# Altium footprint library FRONT-UNIT.PcbLib: 20 footprints (part 2 of 2)
Each footprint in its own frame and in the unit in brackets; x right, y up, seen from the top. Pads: shape width x height; smd on the part's side, far side on the other; paste and mask are expansions set on the pad; w line width, h text height; cw(c..) or ccw(c..) is an arc to the next point about the centre after c.
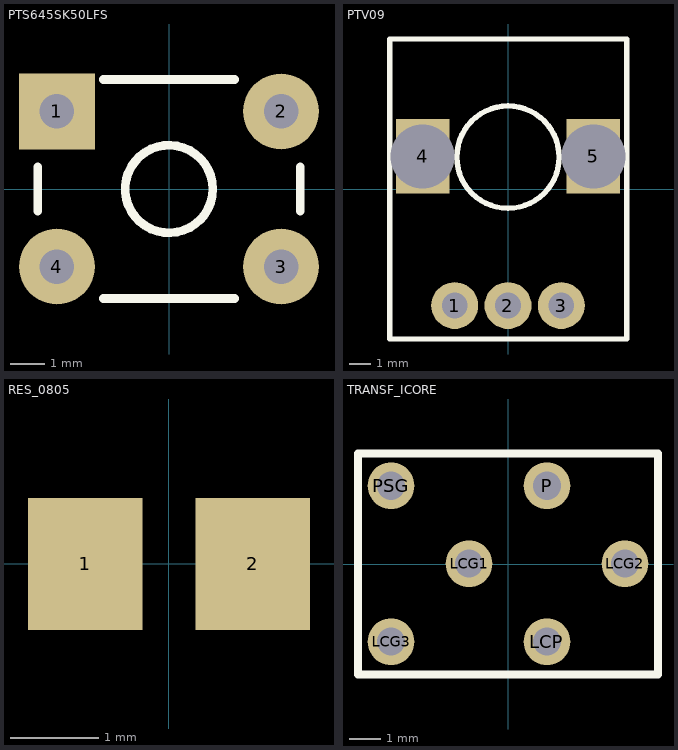
[diagram p1: the footprints below, top view; thin cyan lines are the x and y axes]

## PTS645SK50LFS [mm]
pads (4):
  rect 2.2x2.2 hole 1: 1(-3.25,2.25)
  round 2.2 hole 1: 2(3.25,2.25) 3(3.25,-2.25) 4(-3.25,-2.25)
Top Overlay:
  circle w0.254: c0,0 r1.27
  lines w0.254: -3.81,-0.635 -3.81,0.635 ; -1.904,-3.174 1.904,-3.174 ; -1.904,3.175 1.904,3.175 ; 3.81,-0.635 3.81,0.635

## PTV09 [mm]
pads (5):
  round 2.2 hole 1.2: 1(-2.515,-5.465) 2(-0.015,-5.465) 3(2.485,-5.465)
  rect 2.5x3.5 hole 3 square: 4(-4.015,1.535) 5(3.985,1.535)
Top Overlay:
  circle w0.254: c-0.016,1.496 r2.4
  lines w0.254: -5.555,-7.035 -5.555,7.035 5.555,7.035 5.555,-7.035 -5.555,-7.035

## RES_0805 [mm]
pads (2):
  rect 1.3x1.5 smd: 1(-0.95,0) 2(0.95,0)

## TRANSF_ICORE [mm]
pads (6):
  round 1.5 hole 0.9: LCG1(-1.25,0.01) LCG2(3.75,0.01) LCG3(-3.75,-2.49) LCP(1.25,-2.49) P(1.25,2.51) PSG(-3.75,2.51)
Top Overlay:
  lines w0.254: -4.81,-3.54 4.81,-3.54 4.81,3.54 -4.81,3.54 -4.81,-3.54